# Altium footprint library transform.PcbLib: 38 footprints (part 3 of 3)
Each footprint in its own frame and in the unit in brackets; x right, y up, seen from the top. Pads: shape width x height; smd on the part's side, far side on the other; paste and mask are expansions set on the pad; w line width, h text height; cw(c..) or ccw(c..) is an arc to the next point about the centre after c.
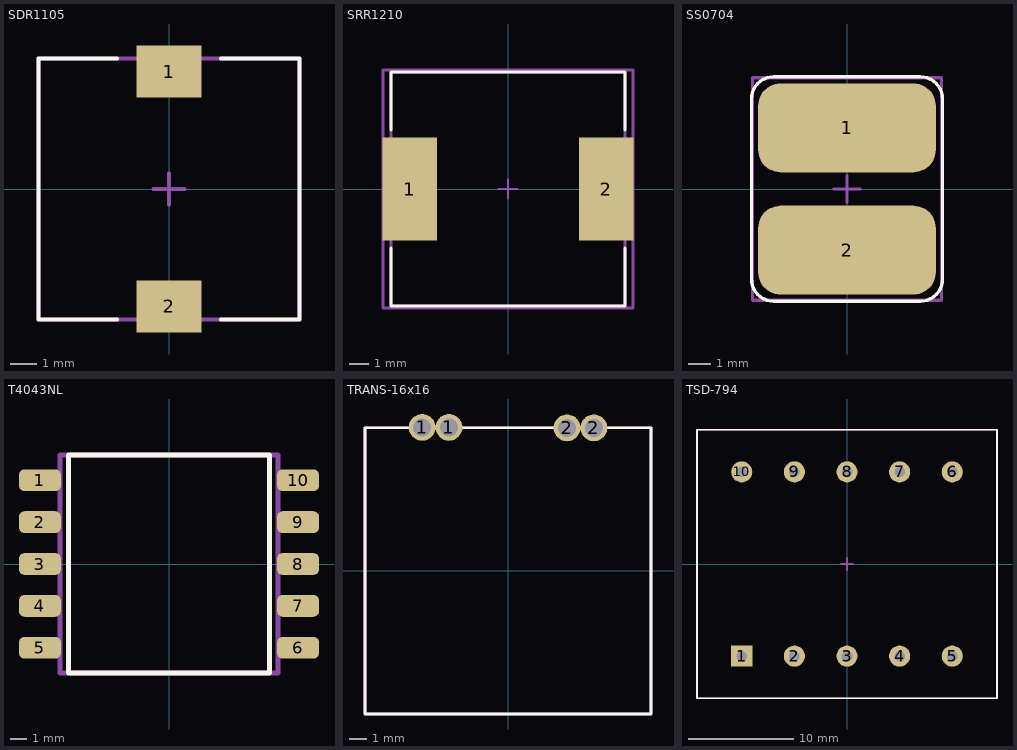
[diagram p2: the footprints below, top view; thin cyan lines are the x and y axes]

## SDR1105 [mm]
pads (2):
  rect 2.5x2 smd: 1(0,4.5) 2(0,-4.5)
Top Overlay:
  lines w0.15: -2,-5 -5,-5 -5,5 -2,5 ; 2,-5 5,-5 5,5 2,5
Top Courtyard:
  lines w0.15: -5,-5 5,-5 5,5 -5,5 -5,-5
Mechanical 15:
  lines w0.15: -0.6,0 0,0 ; 0,-0.6 0,0 ; 0,0.6 0,0 ; 0.6,0 0,0
3D body: height 1.5, standoff 0.5, extent -5,-4.998 5,4.999
3D body: height 5.3, standoff 0.5, extent -5,-4.998 5,4.999

## SRR1210 [mm] "Precision Wire Wound Inductor, 2-Leads, Body 12,00x12,00mm, IPC High Density"
height 10
pads (2):
  rect 2.8x5.3 smd: 1(-5.05,0) 2(5.05,0)
Top Overlay:
  lines w0.15: -6,-3.025 -6,-6 6,-6 6,-3.025 ; -6,3.025 -6,6 6,6 6,3.025
Top Courtyard:
  lines w0.15: -6,-6 6,-6 6,6 -6,6 -6,-6
Top 3D Body:
  lines w0.1: -0.5,0 0.5,0 ; 0,-0.5 0,0.5
  lines w0.15: -6.425,-6.1 6.425,-6.1 6.425,6.1 -6.425,6.1 -6.425,-6.1
3D body: height 10.1, standoff 0, extent -6.1,-6 6.1,6

## SS0704 [mm]
pads (2):
  rrect50% 8x4 smd: 1(0,2.75) 2(0,-2.75)
Top Overlay:
  lines w0.15: -4.3,-4.05 ccw(c-3.3,-4.05) -3.3,-5.05 3.3,-5.05 ccw(c3.3,-4.05) 4.3,-4.05 4.3,4.05 ccw(c3.3,4.05) 3.3,5.05 -3.3,5.05 ccw(c-3.3,4.05) -4.3,4.05 -4.3,-4.05
Mechanical 15:
  lines w0.15: -0.6,0 0,0 ; 0,-0.6 0,0 ; 0,0.6 0,0 ; 0.6,0 0,0 ; -4.25,-5 -4.25,5 4.25,5 4.25,-5 -4.25,-5
3D body: height 4, standoff 0, extent -3.775,-3.7 3.725,3.8

## T4043NL [mm]
pads (10):
  rrect50% 2.5x1.3 smd: 1(-7.7,5) 2(-7.7,2.5) 3(-7.7,0) 4(-7.7,-2.5) 5(-7.7,-5) 6(7.7,-5) 7(7.7,-2.5) 8(7.7,0) 9(7.7,2.5) 10(7.7,5)
Top Overlay:
  lines w0.3: -6,-6.5 6,-6.5 6,6.5 -6,6.5 -6,-6.5
  text "." at -7.502,6.411 h0.1
Top Courtyard:
  lines w0.3: -6.5,-6.5 -6.5,6.5 6.5,6.5 6.5,-6.5 -6.5,-6.5
3D body: height 12.3, standoff 2.5, extent -6.5,-6.5 6.5,6.5
3D body: height 2.5, standoff 0, extent -6.5,-6.5 -3.5,6.5
3D body: height 2.5, standoff 0, extent 3.5,-6.5 6.5,6.5

## TRANS-16x16 [mm]
pads (4):
  round 1.5 hole 1: 1(-4.8,8.025) 1(-3.3,8.025) 2(3.3,8) 2(4.8,8)
Top Overlay:
  lines w0.15: -8,-8 -8,8 8,8 8,-8 -8,-8
Mechanical 29:
  lines w0.15: -8,-8 -8,8 8,8 8,-8 -8,-8
3D body: height 0.5, standoff 0, extent -5.999,-6.999 5.999,5.999
3D body: height 9.5, standoff 0.5, extent -8,-7.6 8,-0.6
3D body: height 9.5, standoff 0.5, extent -8,-0.5 8,6.5

## TSD-794 [mm]
height 25
pads (10):
  rect 2x2 hole 1: 1(-10,-8.75)
  round 2 hole 1: 2(-5,-8.75) 3(0,-8.75) 4(5,-8.75) 5(10,-8.75) 6(10,8.75) 7(5,8.75) 8(0,8.75) 9(-5,8.75) 10(-10,8.75)
Top Overlay:
  lines w0.15: -14.25,-12.75 -14.25,12.75 14.25,12.75 14.25,-12.75 -14.25,-12.75
Mechanical 15:
  lines w0.15: -0.6,0 0,0 ; 0,-0.6 0,0 ; 0,0.6 0,0 ; 0.6,0 0,0 ; -14.25,-12.75 14.25,-12.75 14.25,12.75 -14.25,12.75 -14.25,-12.75
3D body: height 26.2, standoff -3.25, extent -13.75,-8.652 13.75,8.652